# Altium schematic symbol library ZMOD4510.SchLib: 1 symbol
Pins are listed as number, name and electrical type; pins without a type are passive.

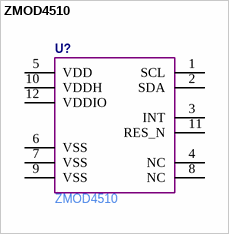
[diagram p0: symbol ZMOD4510]

## ZMOD4510
designator U?  Manufacturer Part Number: ZMOD4510  (hidden comment: *)
pins: 1 SCL, 2 SDA, 3 INT, 4 NC, 5 VDD, 6 VSS, 7 VSS, 8 NC, 9 VSS, 10 VDDH, 11 RES_N, 12 VDDIO